# Altium schematic symbol library VEML6035.SchLib: 1 symbol
Pins are listed as number, name and electrical type; pins without a type are passive.

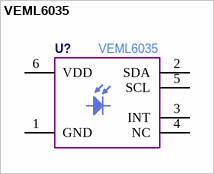
[diagram p0: symbol VEML6035]

## VEML6035
designator U?  Manufacturer Part Number: VEML6035  (hidden comment: *)
pins: 1 GND, 2 SDA, 3 INT, 4 NC, 5 SCL, 6 VDD